# EAGLE library part 1140084168 (library SamacSys_Parts)
Memory Card Connectors Micro SD 8 Pin PCB Gold Source: Datasheet <https://www.mouser.es/datasheet/2/18/11400841-1156069.pdf>
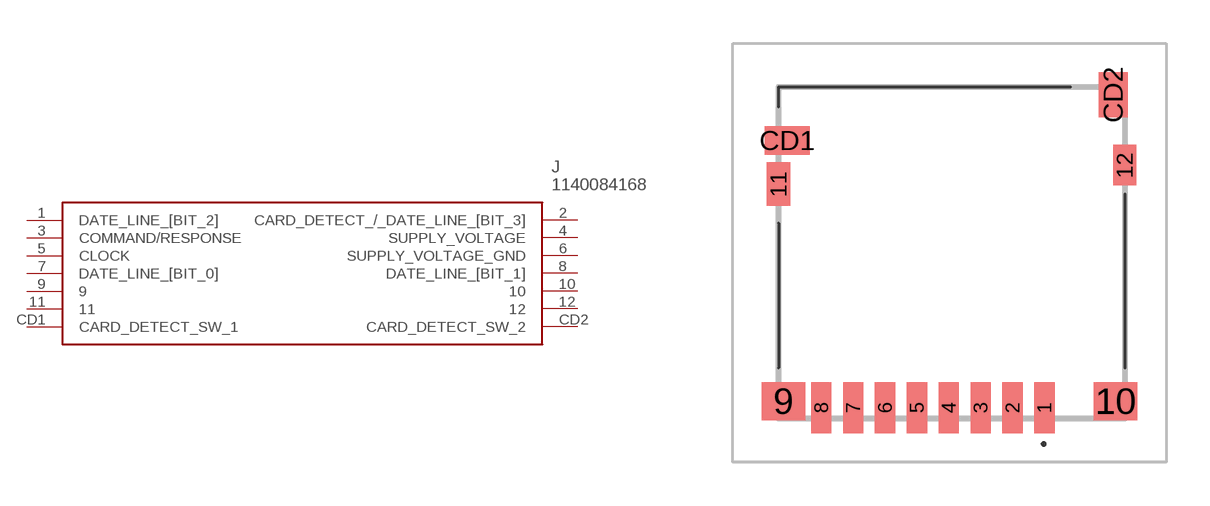
[diagram p0: symbol with the pads of 1140084168; footprint 1140084168]

Designator prefix J

## 1140084168 (DESCRIPTION: Memory Card Connectors Micro SD 8 Pin PCB Gold; HEIGHT: 1.68mm; MANUFACTURER_NAME: Amphenol; MANUFACTURER_PART_NUMBER: 1140084168; MOUSER_PART_NUMBER: 523-114-00841-68)  [1140084168]
1  DATE_LINE_[BIT_2]
2  CARD_DETECT_/_DATE_LINE_[BIT_3]
3  COMMAND/RESPONSE
4  SUPPLY_VOLTAGE
5  CLOCK
6  SUPPLY_VOLTAGE_GND
7  DATE_LINE_[BIT_0]
8  DATE_LINE_[BIT_1]
9  9
10  10
11  11
12  12
CD1  CARD_DETECT_SW_1
CD2  CARD_DETECT_SW_2

## Footprint 1140084168 (pad centres in mm)
1140084168-3
smd 0.7 x 1.75: 1 3.275,-5.35; 2 2.175,-5.35; 3 1.075,-5.35; 4 -0.025,-5.35; 5 -1.125,-5.35; 6 -2.225,-5.35; 7 -3.325,-5.35; 8 -4.425,-5.35
smd 1.5 x 1.3: 9 -5.725,-5.125; 10 5.725,-5.125
smd 0.8 x 1.5: 11 -5.9,2.375
smd 0.8 x 1.4: 12 6.05,3.025
smd 1.55 x 1: CD1 -5.6,3.875
smd 1 x 1.55: CD2 5.65,5.45